# Altium footprint library FPGA.PcbLib: 4 footprints
Each footprint in its own frame and in the unit in brackets; x right, y up, seen from the top. Pads: shape width x height; smd on the part's side, far side on the other; paste and mask are expansions set on the pad; w line width, h text height; cw(c..) or ccw(c..) is an arc to the next point about the centre after c.
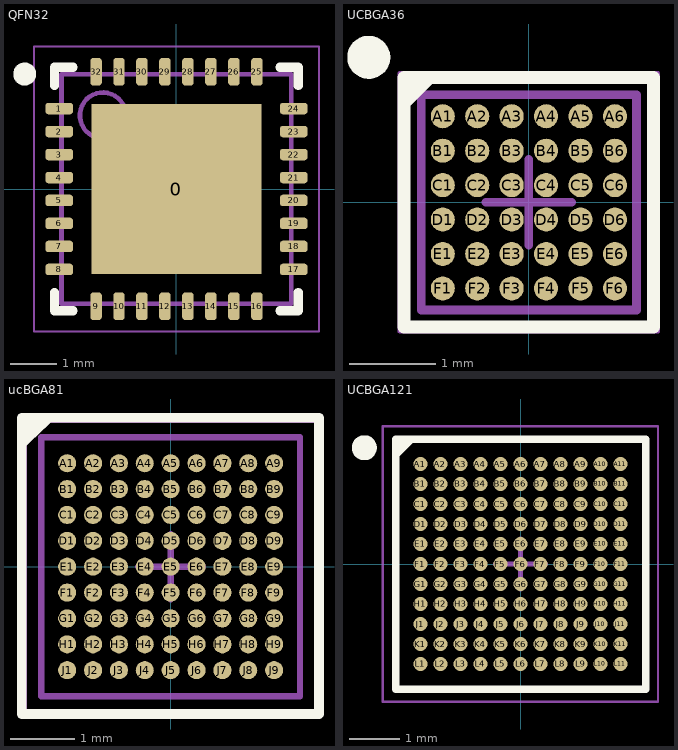
[diagram p0: the footprints below, top view; thin cyan lines are the x and y axes]

## QFN32 [mm]
height 0.55
pads (33):
  rect 3.7x3.7 smd: 0(0,0)
  rrect50% 0.6x0.25 smd mask+0.085: 1(-2.55,1.75) 2(-2.55,1.25) 3(-2.55,0.75) 4(-2.55,0.25) 5(-2.55,-0.25) 6(-2.55,-0.75) 7(-2.55,-1.25) 8(-2.55,-1.75) 17(2.55,-1.75) 18(2.55,-1.25) 19(2.55,-0.75) 20(2.55,-0.25) 21(2.55,0.25) 22(2.55,0.75) 23(2.55,1.25) 24(2.55,1.75)
  rrect50% 0.25x0.6 smd mask+0.085: 9(-1.75,-2.55) 10(-1.25,-2.55) 11(-0.75,-2.55) 12(-0.25,-2.55) 13(0.25,-2.55) 14(0.75,-2.55) 15(1.25,-2.55) 16(1.75,-2.55) 25(1.75,2.55) 26(1.25,2.55) 27(0.75,2.55) 28(0.25,2.55) 29(-0.25,2.55) 30(-0.75,2.55) 31(-1.25,2.55) 32(-1.75,2.55)
Top Overlay:
  circle w0.25: c-3.3,2.5 r0.125
  lines w0.2: -2.65,-2.25 -2.65,-2.65 -2.25,-2.65 ; -2.65,2.25 -2.65,2.65 -2.25,2.65 ; 2.25,-2.65 2.65,-2.65 2.65,-2.25 ; 2.25,2.65 2.65,2.65 2.65,2.25
Mechanical 13:
  circle w0.1: c-1.6,1.6 r0.5
  lines w0.1: -2.5,-2.5 2.5,-2.5 2.5,2.5 -2.5,2.5 -2.5,-2.5
Mechanical 15:
  lines w0.05: -3.1,-3.1 3.1,-3.1 3.1,3.1 -3.1,3.1 -3.1,-3.1
  lines w0.1: -0.5,0 0.5,0 ; 0,-0.5 0,0.5
3D body: height 0.55, standoff 0.02, extent -2.5,-2.5 2.5,2.5

## UCBGA36 [mm]
height 1
pads (36):
  round 0.279 smd mask-0.013: A1(-1,1) A2(-0.6,1) A3(-0.2,1) A4(0.2,1) A5(0.6,1) A6(1,1) B1(-1,0.6) B2(-0.6,0.6) B3(-0.2,0.6) B4(0.2,0.6) B5(0.6,0.6) B6(1,0.6) C1(-1,0.2) C2(-0.6,0.2) C3(-0.2,0.2) C4(0.2,0.2) C5(0.6,0.2) C6(1,0.2) D1(-1,-0.2) D2(-0.6,-0.2) D3(-0.2,-0.2) D4(0.2,-0.2) D5(0.6,-0.2) D6(1,-0.2) E1(-1,-0.6) E2(-0.6,-0.6) E3(-0.2,-0.6) E4(0.2,-0.6) E5(0.6,-0.6) E6(1,-0.6) F1(-1,-1) F2(-0.6,-1) F3(-0.2,-1) F4(0.2,-1) F5(0.6,-1) F6(1,-1)
Top Overlay:
  circle w0.25: c-1.86,1.685 r0.125
  region: -1,1.5 -1.5,1 -1.5,1.5
  lines w0.15: -1.45,-1.45 -1.45,1.45 1.45,1.45 1.45,-1.45 -1.45,-1.45
Mechanical 13:
  lines w0.1: -1.25,-1.25 -1.25,1.25 1.25,1.25 1.25,-1.25 -1.25,-1.25
Mechanical 15:
  lines w0.05: -1.5,-1.5 -1.5,1.5 1.5,1.5 1.5,-1.5 -1.5,-1.5
  lines w0.1: -0.5,0 0.5,0 ; 0,-0.5 0,0.5
3D body: height 1, standoff 0.1, extent -1.25,-1.25 1.25,1.25

## ucBGA81 [mil]
height 39.37
pads (81):
  round 11 smd mask-0.5: A1(-62.99,62.99) A2(-47.24,62.99) A3(-31.5,62.99) A4(-15.75,62.99) A5(0,62.99) A6(15.75,62.99) A7(31.5,62.99) A8(47.24,62.99) A9(62.99,62.99) B1(-62.99,47.24) B2(-47.24,47.24) B3(-31.5,47.24) B4(-15.75,47.24) B5(0,47.24) B6(15.75,47.24) B7(31.5,47.24) B8(47.24,47.24) B9(62.99,47.24) C1(-62.99,31.5) C2(-47.24,31.5) C3(-31.5,31.5) C4(-15.75,31.5) C5(0,31.5) C6(15.75,31.5) C7(31.5,31.5) C8(47.24,31.5) C9(62.99,31.5) D1(-62.99,15.75) D2(-47.24,15.75) D3(-31.5,15.75) D4(-15.75,15.75) D5(0,15.75) D6(15.75,15.75) D7(31.5,15.75) D8(47.24,15.75) D9(62.99,15.75) E1(-62.99,0) E2(-47.24,0) E3(-31.5,0) E4(-15.75,0) E5(0,0) E6(15.75,0) E7(31.5,0) E8(47.24,0) E9(62.99,0) F1(-62.99,-15.75) F2(-47.24,-15.75) F3(-31.5,-15.75) F4(-15.75,-15.75) F5(0,-15.75) F6(15.75,-15.75) F7(31.5,-15.75) F8(47.24,-15.75) F9(62.99,-15.75) G1(-62.99,-31.5) G2(-47.24,-31.5) G3(-31.5,-31.5) G4(-15.75,-31.5) G5(0,-31.5) G6(15.75,-31.5) G7(31.5,-31.5) G8(47.24,-31.5) G9(62.99,-31.5) H1(-62.99,-47.24) H2(-47.24,-47.24) H3(-31.5,-47.24) H4(-15.75,-47.24) H5(0,-47.24) H6(15.75,-47.24) H7(31.5,-47.24) H8(47.24,-47.24) H9(62.99,-47.24) J1(-62.99,-62.99) J2(-47.24,-62.99) J3(-31.5,-62.99) J4(-15.75,-62.99) J5(0,-62.99) J6(15.75,-62.99) J7(31.5,-62.99) J8(47.24,-62.99) J9(62.99,-62.99)
Top Overlay:
  region: -68.11,92.52 -91.54,70.28 -92.32,92.91
  lines w5.91: -90.67,-89.64 -90.67,90.63 90.31,90.63 90.31,-89.64 -90.67,-89.64
Mechanical 13:
  lines w3.94: -78.74,-78.74 78.74,-78.74 78.74,78.74 -78.74,78.74 -78.74,-78.74
Mechanical 15:
  lines w1.97: -88.58,-88.58 88.58,-88.58 88.58,88.58 -88.58,88.58 -88.58,-88.58
  lines w3.94: -19.68,0 19.69,0 ; 0,-19.69 0,19.68
3D body: height 39.37, standoff 3.94, extent -78.74,-78.74 78.74,78.74

## UCBGA121 [mm]
height 1
pads (121):
  round 0.28 smd mask-0.02: A1(-2,2) A2(-1.6,2) A3(-1.2,2) A4(-0.8,2) A5(-0.4,2) A6(0,2) A7(0.4,2) A8(0.8,2) A9(1.2,2) A10(1.6,2) A11(2,2) B1(-2,1.6) B2(-1.6,1.6) B3(-1.2,1.6) B4(-0.8,1.6) B5(-0.4,1.6) B6(0,1.6) B7(0.4,1.6) B8(0.8,1.6) B9(1.2,1.6) B10(1.6,1.6) B11(2,1.6) C1(-2,1.2) C2(-1.6,1.2) C3(-1.2,1.2) C4(-0.8,1.2) C5(-0.4,1.2) C6(0,1.2) C7(0.4,1.2) C8(0.8,1.2) C9(1.2,1.2) C10(1.6,1.2) C11(2,1.2) D1(-2,0.8) D2(-1.6,0.8) D3(-1.2,0.8) D4(-0.8,0.8) D5(-0.4,0.8) D6(0,0.8) D7(0.4,0.8) D8(0.8,0.8) D9(1.2,0.8) D10(1.6,0.8) D11(2,0.8) E1(-2,0.4) E2(-1.6,0.4) E3(-1.2,0.4) E4(-0.8,0.4) E5(-0.4,0.4) E6(0,0.4) E7(0.4,0.4) E8(0.8,0.4) E9(1.2,0.4) E10(1.6,0.4) E11(2,0.4) F1(-2,0) F2(-1.6,0) F3(-1.2,0) F4(-0.8,0) F5(-0.4,0) F6(0,0) F7(0.4,0) F8(0.8,0) F9(1.2,0) F10(1.6,0) F11(2,0) G1(-2,-0.4) G2(-1.6,-0.4) G3(-1.2,-0.4) G4(-0.8,-0.4) G5(-0.4,-0.4) G6(0,-0.4) G7(0.4,-0.4) G8(0.8,-0.4) G9(1.2,-0.4) G10(1.6,-0.4) G11(2,-0.4) H1(-2,-0.8) H2(-1.6,-0.8) H3(-1.2,-0.8) H4(-0.8,-0.8) H5(-0.4,-0.8) H6(0,-0.8) H7(0.4,-0.8) H8(0.8,-0.8) H9(1.2,-0.8) H10(1.6,-0.8) H11(2,-0.8) J1(-2,-1.2) J2(-1.6,-1.2) J3(-1.2,-1.2) J4(-0.8,-1.2) J5(-0.4,-1.2) J6(0,-1.2) J7(0.4,-1.2) J8(0.8,-1.2) J9(1.2,-1.2) J10(1.6,-1.2) J11(2,-1.2) K1(-2,-1.6) K2(-1.6,-1.6) K3(-1.2,-1.6) K4(-0.8,-1.6) K5(-0.4,-1.6) K6(0,-1.6) K7(0.4,-1.6) K8(0.8,-1.6) K9(1.2,-1.6) K10(1.6,-1.6) K11(2,-1.6) L1(-2,-2) L2(-1.6,-2) L3(-1.2,-2) L4(-0.8,-2) L5(-0.4,-2) L6(0,-2) L7(0.4,-2) L8(0.8,-2) L9(1.2,-2) L10(1.6,-2) L11(2,-2)
Top Overlay:
  circle w0.25: c-3.125,2.325 r0.125
  region: -2.179,2.5 -2.5,2.179 -2.5,2.5
  lines w0.15: -2.5,2.179 -2.179,2.5 ; -2.5,-2.5 -2.5,2.5 2.5,2.5 2.5,-2.5 -2.5,-2.5
Mechanical 13:
  lines w0.1: -2.5,-2.5 -2.5,2.5 2.5,2.5 2.5,-2.5 -2.5,-2.5
Mechanical 15:
  lines w0.05: -2.75,-2.75 -2.75,2.75 2.75,2.75 2.75,-2.75 -2.75,-2.75
  lines w0.1: -0.5,0 0.5,0 ; 0,-0.5 0,0.5
3D body: height 1, standoff 0.1, extent -2.5,-2.5 2.5,2.5